# EAGLE library part HEADER-2X05-ROW-PARITY (library magzor)
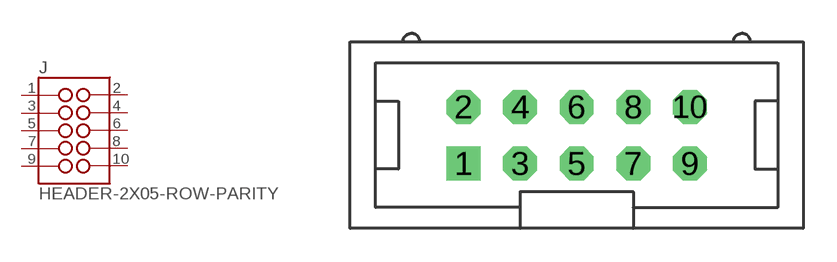
[diagram p4: symbol with the pads of HEADER-2X05-ROW-PARITY; footprint HEADER-2X05-ROW-PARITY]

Designator prefix J

## HEADER-2X05-ROW-PARITY-0.1"-PITCH  [HEADER-2X05-ROW-PARITY]
1  1
2  2
3  3
4  4
5  5
6  6
7  7
8  8
9  9
10  10

## Footprint HEADER-2X05-ROW-PARITY (pad centres in mm)
row parity: all odd numbered pins on one side
drill 1.016 square: 1 -5.08,-1.27
drill 1.016 octagon: 2 -5.08,1.27; 3 -2.54,-1.27; 4 -2.54,1.27; 5 0,-1.27; 6 0,1.27; 7 2.54,-1.27; 8 2.54,1.27; 9 5.08,-1.27; 10 5.08,1.27